# Altium schematic symbol library DF11-10DP-2DS(24).SchLib: 1 symbol
Pins are listed as number, name and electrical type; pins without a type are passive.

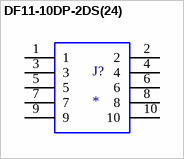
[diagram p0: symbol DF11-10DP-2DS(24)]

## DF11-10DP-2DS(24)
designator J?
Headers & Wire Housings 2MM R/A PCB HEADER 10P DR THRU-HOLE TIN / Manufacturer PN: DF11-10DP-2DS(24)
footprint DF11-10DP-2DS(24)
pins: 1, 2, 3, 4, 5, 6, 7, 8, 9, 10